# Altium schematic symbol library MKL02Z32VFG4.SchLib: 1 symbol
Pins are listed as number, name and electrical type; pins without a type are passive.

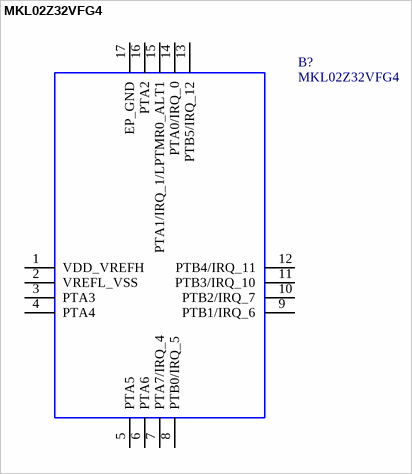
[diagram p0: symbol MKL02Z32VFG4]

## MKL02Z32VFG4
designator B?
Freescale MKL02Z32VFG4, 32bit ARM Cortex M0 Microcontroller, 48MHz, 32 kB Flash, 16-Pin QFN; Manufacturer_Name: Nexperia; Geometry.Height: 0.65mm; Supplier_Name: RS; RS Part Number: 7884723; Manufacturer_Part_Number: MKL02Z32VFG4; Allied_Number: *; Other Part Number: *; Datasheet Link: http://cache.nxp.com/files/32bit/doc/data_sheet/KL02P32M48SF0.pdf; 3D Package: *
footprint QFN50P300X300X65-17N
pins: 1 VDD_VREFH (power), 2 VREFL_VSS, 3 PTA3, 4 PTA4, 5 PTA5, 6 PTA6, 7 PTA7/IRQ_4, 8 PTB0/IRQ_5, 9 PTB1/IRQ_6, 10 PTB2/IRQ_7, 11 PTB3/IRQ_10, 12 PTB4/IRQ_11, 13 PTB5/IRQ_12, 14 PTA0/IRQ_0, 15 PTA1/IRQ_1/LPTMR0_ALT1, 16 PTA2, 17 EP_GND